# Altium footprint library 18650 battery.PCBLIB: 111 footprints (part 2 of 7)
Each footprint in its own frame and in the unit in brackets; x right, y up, seen from the top. Pads: shape width x height; smd on the part's side, far side on the other; paste and mask are expansions set on the pad; w line width, h text height; cw(c..) or ccw(c..) is an arc to the next point about the centre after c.
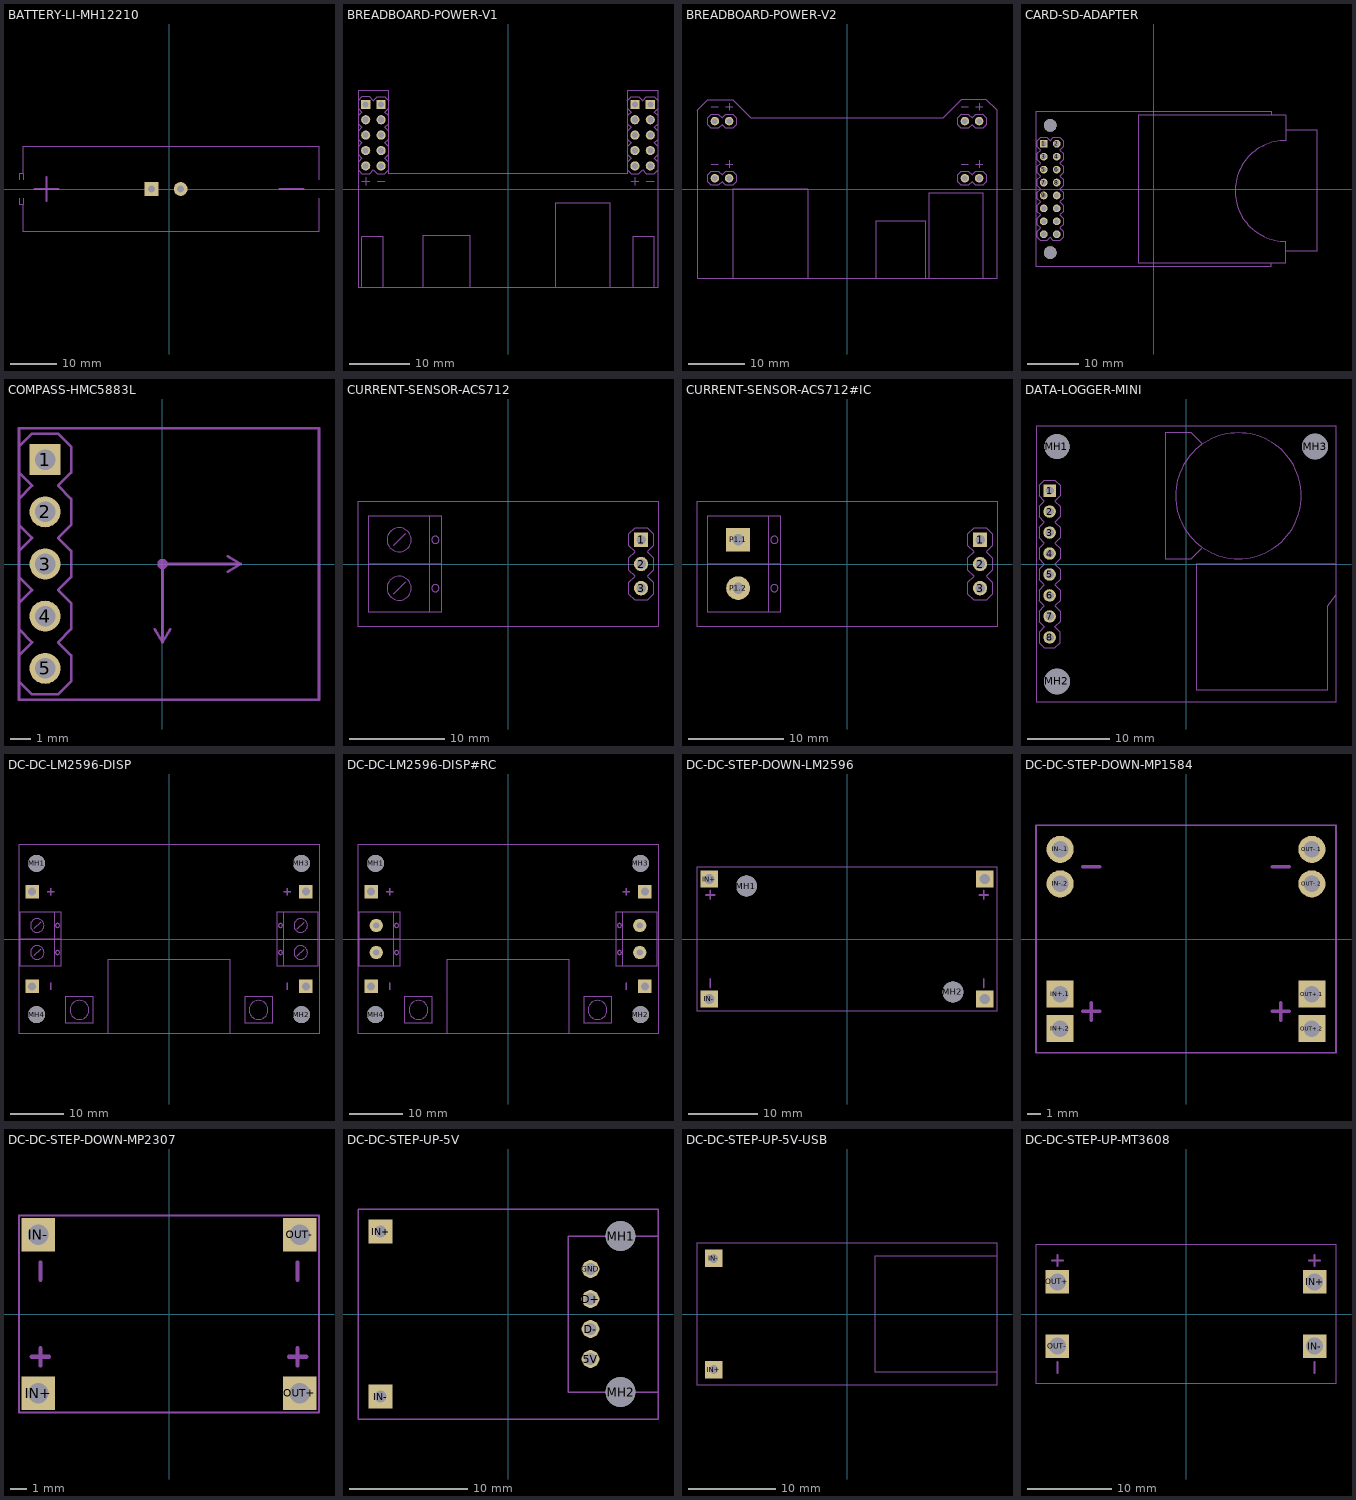
[diagram p1: the footprints below, top view; thin cyan lines are the x and y axes]

## BATTERY-LI-MH12210 [mm]
pads (2):
  rect 3x3 / inner round 2.772 / far side rect 3x3 hole 1.5: BAT+(-3.81,0)
  round 3 hole 1.5: BAT-(2.54,0)
tPlace:
  lines w0.127: -32.639,-2.032 -32.639,-3.302 -31.75,-3.302 ; -32.639,2.032 -32.639,3.302 -31.75,3.302 ; -31.75,-2.032 -31.75,-3.302 ; -31.75,2.032 -31.75,3.302 ; 32.639,-2.032 32.639,-9.271 -31.75,-9.271 -31.75,-3.302 ; 32.639,2.032 32.639,9.271 -31.75,9.271 -31.75,3.302
  lines w0.508: -29.21,0 -24.13,0 ; -26.67,-2.54 -26.67,2.54 ; 24.13,0 29.21,0
  text "MH1220" at 0,1.27 h4.72
  text "3.7V" at 0,-1.27 h4.72

## BREADBOARD-POWER-V1 [mm]
pads (20):
  rect 1.508x1.508 / inner round 1.393 / far side rect 1.508x1.508 hole 1: A.M.1(-20.955,13.97) A.P.1(-23.495,13.97) B.M.1(23.495,13.97) B.P.1(20.955,13.97)
  round 1.508 hole 1: A.M.2(-20.955,11.43) A.M.3(-20.955,8.89) A.M.4(-20.955,6.35) A.M.5(-20.955,3.81) A.P.2(-23.495,11.43) A.P.3(-23.495,8.89) A.P.4(-23.495,6.35) A.P.5(-23.495,3.81) B.M.2(23.495,11.43) B.M.3(23.495,8.89) B.M.4(23.495,6.35) B.M.5(23.495,3.81) B.P.2(20.955,11.43) B.P.3(20.955,8.89) B.P.4(20.955,6.35) B.P.5(20.955,3.81)
tPlace:
  lines w0.127: -24.765,14.605 -24.13,15.24 -22.86,15.24 -22.225,14.605 -21.59,15.24 -20.32,15.24 -19.685,14.605 ; -24.13,1.27 -22.86,1.27 ; -23.495,0.635 -23.495,1.905 ; -21.59,1.27 -20.32,1.27 ; 20.32,1.27 21.59,1.27 ; 20.955,0.635 20.955,1.905 ; 22.86,1.27 24.13,1.27 ; -24.765,3.175 -24.765,4.445 ; -24.765,3.175 -24.765,-16.256 -24.13,-16.256 ; -24.765,3.175 -24.13,2.54 -22.86,2.54 -22.225,3.175 -21.59,2.54 -20.32,2.54 -19.685,3.175 ; -24.765,4.445 -24.765,5.715 ; -24.765,4.445 -24.13,5.08 -24.765,5.715 ; -24.765,5.715 -24.765,6.985 ; -24.765,6.985 -24.765,8.255 ; -24.765,6.985 -24.13,7.62 -24.765,8.255 ; -24.765,8.255 -24.765,9.525 ; -24.765,9.525 -24.765,10.795 ; -24.765,9.525 -24.13,10.16 -24.765,10.795 ; -24.765,10.795 -24.765,12.065 ; -24.765,12.065 -24.765,13.335 ; -24.765,12.065 -24.13,12.7 -24.765,13.335 ; -24.765,13.335 -24.765,16.256 -19.685,16.256 -19.685,13.335 ; -24.13,-16.256 -20.574,-16.256 ; -24.13,-16.256 -24.13,-7.874 -20.574,-7.874 -20.574,-16.256 ; -20.574,-16.256 -13.97,-16.256 ; -19.685,3.175 -19.685,2.54 19.685,2.54 19.685,3.175 ; -19.685,3.175 -19.685,4.445 ; -19.685,4.445 -19.685,5.715 ; -19.685,4.445 -20.32,5.08 -19.685,5.715 ; -19.685,5.715 -19.685,6.985 ; -19.685,6.985 -19.685,8.255 ; -19.685,6.985 -20.32,7.62 -19.685,8.255 ; -19.685,8.255 -19.685,9.525 ; -19.685,9.525 -19.685,10.795 ; -19.685,9.525 -20.32,10.16 -19.685,10.795 ; -19.685,10.795 -19.685,12.065 ; -19.685,12.065 -19.685,13.335 ; -19.685,12.065 -20.32,12.7 -19.685,13.335 ; -13.97,-16.256 -6.35,-16.256 ; -13.97,-16.256 -13.97,-7.62 -6.35,-7.62 -6.35,-16.256 ; -6.35,-16.256 7.874,-16.256 ; 7.874,-16.256 16.764,-16.256 ; 7.874,-16.256 7.874,-2.286 16.764,-2.286 16.764,-16.256 ; 16.764,-16.256 20.574,-16.256 ; 19.685,3.175 19.685,4.445 ; 19.685,3.175 20.32,2.54 21.59,2.54 22.225,3.175 22.86,2.54 24.13,2.54 24.765,3.175 ; 19.685,4.445 19.685,5.715 ; 19.685,4.445 20.32,5.08 19.685,5.715 ; 19.685,5.715 19.685,6.985 ; 19.685,6.985 19.685,8.255 ; 19.685,6.985 20.32,7.62 19.685,8.255 ; 19.685,8.255 19.685,9.525 ; 19.685,9.525 19.685,10.795 ; 19.685,9.525 20.32,10.16 19.685,10.795 ; 19.685,10.795 19.685,12.065 ; 19.685,12.065 19.685,13.335 ; 19.685,12.065 20.32,12.7 19.685,13.335 ; 19.685,13.335 19.685,14.605 ; 19.685,14.605 19.685,16.256 24.765,16.256 24.765,14.605 ; 19.685,14.605 20.32,15.24 21.59,15.24 22.225,14.605 22.86,15.24 24.13,15.24 24.765,14.605 ; 20.574,-16.256 24.13,-16.256 ; 20.574,-16.256 20.574,-7.874 24.13,-7.874 24.13,-16.256 ; 24.13,-16.256 24.765,-16.256 24.765,3.175 ; 24.765,3.175 24.765,4.445 ; 24.765,4.445 24.765,5.715 ; 24.765,4.445 24.13,5.08 24.765,5.715 ; 24.765,5.715 24.765,6.985 ; 24.765,6.985 24.765,8.255 ; 24.765,6.985 24.13,7.62 24.765,8.255 ; 24.765,8.255 24.765,9.525 ; 24.765,9.525 24.765,10.795 ; 24.765,9.525 24.13,10.16 24.765,10.795 ; 24.765,10.795 24.765,12.065 ; 24.765,12.065 24.765,13.335 ; 24.765,12.065 24.13,12.7 24.765,13.335 ; 24.765,13.335 24.765,14.605
  text "SW1" at -22.352,-12.065 h1.97
  text "USB" at -10.16,-12.065 h1.97
  text "DC-IN" at 12.192,-12.065 h1.97
  text "SW2" at 22.352,-12.065 h1.97
  text "A" at -22.225,0 h1.97
  text "B" at 22.225,0 h1.97

## BREADBOARD-POWER-V2 [mm]
pads (8):
  round 1.508 hole 1: A.M.1(-23.495,12.065) A.M.2(-23.495,1.905) A.P.1(-20.955,12.065) A.P.2(-20.955,1.905) B.M.1(20.955,12.065) B.M.2(20.955,1.905) B.P.1(23.495,12.065) B.P.2(23.495,1.905)
tPlace:
  lines w0.127: -24.13,4.445 -22.86,4.445 ; -24.13,14.605 -22.86,14.605 ; -21.59,4.445 -20.32,4.445 ; -21.59,14.605 -20.32,14.605 ; -20.955,3.81 -20.955,5.08 ; -20.955,13.97 -20.955,15.24 ; 20.32,4.445 21.59,4.445 ; 20.32,14.605 21.59,14.605 ; 22.86,4.445 24.13,4.445 ; 22.86,14.605 24.13,14.605 ; 23.495,3.81 23.495,5.08 ; 23.495,13.97 23.495,15.24 ; -20.32,-15.875 -26.67,-15.875 -26.67,13.97 -24.765,15.875 -20.32,15.875 -17.145,12.7 17.145,12.7 20.32,15.875 24.765,15.875 26.67,13.97 26.67,-15.875 24.13,-15.875 ; -20.32,-15.875 -6.985,-15.875 ; -20.32,-15.875 -20.32,0 -6.985,0 -6.985,-15.875 ; -6.985,-15.875 5.08,-15.875 ; 5.08,-15.875 13.97,-15.875 ; 5.08,-15.875 5.08,-5.715 13.97,-5.715 13.97,-15.875 ; 13.97,-15.875 14.605,-15.875 ; 14.605,-15.875 24.13,-15.875 ; 14.605,-15.875 14.605,-0.635 24.13,-0.635 24.13,-15.875 ; -24.765,1.27 -24.13,0.635 -22.86,0.635 -22.225,1.27 -21.59,0.635 -20.32,0.635 -19.685,1.27 -19.685,2.54 -20.32,3.175 -21.59,3.175 -22.225,2.54 -22.86,3.175 -24.13,3.175 -24.765,2.54 -24.765,1.27 ; -24.765,11.43 -24.13,10.795 -22.86,10.795 -22.225,11.43 -21.59,10.795 -20.32,10.795 -19.685,11.43 -19.685,12.7 -20.32,13.335 -21.59,13.335 -22.225,12.7 -22.86,13.335 -24.13,13.335 -24.765,12.7 -24.765,11.43 ; 19.685,1.27 20.32,0.635 21.59,0.635 22.225,1.27 22.86,0.635 24.13,0.635 24.765,1.27 24.765,2.54 24.13,3.175 22.86,3.175 22.225,2.54 21.59,3.175 20.32,3.175 19.685,2.54 19.685,1.27 ; 19.685,11.43 20.32,10.795 21.59,10.795 22.225,11.43 22.86,10.795 24.13,10.795 24.765,11.43 24.765,12.7 24.13,13.335 22.86,13.335 22.225,12.7 21.59,13.335 20.32,13.335 19.685,12.7 19.685,11.43
  text "USB" at -13.652,-8.255 h1.97
  text "DC-IN" at 19.367,-8.255 h1.97
  text "A" at -22.225,7.62 h1.97
  text "B" at 22.225,7.62 h1.97
  text "SW" at 9.652,-10.795 h1.97

## CARD-SD-ADAPTER [mm]
pads (18):
  rect 1.508x1.508 / inner round 1.393 / far side rect 1.508x1.508 hole 1: 1(-21.59,8.89)
  round 1.508 hole 1: 2(-19.05,8.89) 3(-21.59,6.35) 4(-19.05,6.35) 5(-21.59,3.81) 6(-19.05,3.81) 7(-21.59,1.27) 8(-19.05,1.27) 9(-21.59,-1.27) 10(-19.05,-1.27) 11(-21.59,-3.81) 12(-19.05,-3.81) 13(-21.59,-6.35) 14(-19.05,-6.35) 15(-21.59,-8.89) 16(-19.05,-8.89)
  round 2.5 hole 2.5 unplated: MH1(-20.32,12.5) MH2(-20.32,-12.5)
tPlace:
  lines w0.127: 23.114,-14.478 -3.048,-14.478 -3.048,14.478 23.114,14.478 ; 23.114,-14.478 25.908,-14.478 25.908,-12.192 ; 23.114,-14.478 23.114,-15.24 -23.114,-15.24 -23.114,15.24 23.114,15.24 23.114,14.478 ; 23.114,14.478 25.908,14.478 25.908,11.684 ; 25.908,-12.192 25.908,-10.287 cw(c25.908,-0.381) 25.908,9.525 25.908,11.684 ; 25.908,-12.192 32.004,-12.192 32.004,11.684 25.908,11.684 ; -22.86,-9.525 -22.225,-10.16 -20.955,-10.16 -20.32,-9.525 -19.685,-10.16 -18.415,-10.16 -17.78,-9.525 -17.78,-8.255 -18.415,-7.62 -17.78,-6.985 -17.78,-5.715 -18.415,-5.08 -17.78,-4.445 -17.78,-3.175 -18.415,-2.54 -17.78,-1.905 -17.78,-0.635 -18.415,0 -17.78,0.635 -17.78,1.905 -18.415,2.54 -17.78,3.175 -17.78,4.445 -18.415,5.08 -17.78,5.715 -17.78,6.985 -18.415,7.62 -17.78,8.255 -17.78,9.525 -18.415,10.16 -19.685,10.16 -20.32,9.525 -20.955,10.16 -22.225,10.16 -22.86,9.525 -22.86,8.255 -22.225,7.62 -22.86,6.985 -22.86,5.715 -22.225,5.08 -22.86,4.445 -22.86,3.175 -22.225,2.54 -22.86,1.905 -22.86,0.635 -22.225,0 -22.86,-0.635 -22.86,-1.905 -22.225,-2.54 -22.86,-3.175 -22.86,-4.445 -22.225,-5.08 -22.86,-5.715 -22.86,-6.985 -22.225,-7.62 -22.86,-8.255 -22.86,-9.525
  text "SD CARD" at 24.13,-0.381 h2.76

## COMPASS-HMC5883L [mm]
pads (5):
  rect 1.508x1.508 / inner round 1.393 / far side rect 1.508x1.508 hole 1: 1(-5.715,5.08)
  round 1.508 hole 1: 2(-5.715,2.54) 3(-5.715,0) 4(-5.715,-2.54) 5(-5.715,-5.08)
tPlace:
  circle w0.254: c0,0 r0.127
  lines w0.127: -6.985,-5.715 -6.35,-6.35 -5.08,-6.35 -4.445,-5.715 -4.445,-4.445 -5.08,-3.81 -4.445,-3.175 -4.445,-1.905 -5.08,-1.27 -4.445,-0.635 -4.445,0.635 -5.08,1.27 -4.445,1.905 -4.445,3.175 -5.08,3.81 -4.445,4.445 -4.445,5.715 -5.08,6.35 -6.35,6.35 -6.985,5.715 ; -0.381,-3.175 0,-3.81 ; 0.381,-3.175 0,-3.81 ; 3.175,-0.381 3.81,0 ; 3.175,0.381 3.81,0 ; -6.985,-4.445 -6.985,-6.604 7.62,-6.604 7.62,6.604 -6.985,6.604 -6.985,4.445 ; -6.985,-4.445 -6.985,-3.175 ; -6.985,-4.445 -6.35,-3.81 -6.985,-3.175 ; -6.985,-3.175 -6.985,-1.905 ; -6.985,-1.905 -6.985,-0.635 ; -6.985,-1.905 -6.35,-1.27 -6.985,-0.635 ; -6.985,-0.635 -6.985,0.635 ; -6.985,0.635 -6.985,1.905 ; -6.985,0.635 -6.35,1.27 -6.985,1.905 ; -6.985,1.905 -6.985,3.175 ; -6.985,3.175 -6.985,4.445 ; -6.985,3.175 -6.35,3.81 -6.985,4.445 ; 0,-3.81 0,0 3.81,0
  text "X" at 0.635,-3.81 h1.97
  text "Y" at 3.175,0.635 h1.97
  text "Z" at -0.635,0.635 h1.97

## CURRENT-SENSOR-ACS712 [mm]
pads (3):
  rect 1.508x1.508 / inner round 1.393 / far side rect 1.508x1.508 hole 1: 1(13.97,2.54)
  round 1.508 hole 1: 2(13.97,0) 3(13.97,-2.54)
tPlace:
  circle w0.127: c-11.43,2.54 r1.27
  circle w0.127: c-11.43,-2.54 r1.27
  circle w0.127: c-7.62,2.54 r0.381
  circle w0.127: c-7.62,-2.54 r0.381
  lines w0.127: -12.065,-3.175 -10.795,-1.905 ; -12.065,1.905 -10.795,3.175 ; -14.605,0 -14.605,-5.08 -8.255,-5.08 ; -14.605,0 -14.605,5.08 -8.255,5.08 ; -14.605,0 -6.985,0 ; -8.255,-5.08 -6.985,-5.08 -6.985,0 ; -8.255,-5.08 -8.255,5.08 ; -8.255,5.08 -6.985,5.08 -6.985,0 ; -15.748,-6.604 15.748,-6.604 15.748,6.604 -15.748,6.604 -15.748,-6.604 ; 12.7,-3.175 13.335,-3.81 14.605,-3.81 15.24,-3.175 15.24,-1.905 14.605,-1.27 15.24,-0.635 15.24,0.635 14.605,1.27 15.24,1.905 15.24,3.175 14.605,3.81 13.335,3.81 12.7,3.175 12.7,1.905 13.335,1.27 12.7,0.635 12.7,-0.635 13.335,-1.27 12.7,-1.905 12.7,-3.175

## CURRENT-SENSOR-ACS712#IC [mm]
pads (5):
  rect 1.508x1.508 / inner round 1.393 / far side rect 1.508x1.508 hole 1: 1(13.97,2.54)
  round 1.508 hole 1: 2(13.97,0) 3(13.97,-2.54)
  rect 2.5x2.5 / inner round 2.31 / far side rect 2.5x2.5 hole 1.2: P1.1(-11.43,2.54)
  round 2.5 hole 1.2: P1.2(-11.43,-2.54)
tPlace:
  circle w0.127: c-7.62,2.54 r0.381
  circle w0.127: c-7.62,-2.54 r0.381
  lines w0.127: -14.605,0 -14.605,-5.08 -8.255,-5.08 ; -14.605,0 -14.605,5.08 -8.255,5.08 ; -14.605,0 -6.985,0 ; -8.255,-5.08 -6.985,-5.08 -6.985,0 ; -8.255,-5.08 -8.255,5.08 ; -8.255,5.08 -6.985,5.08 -6.985,0 ; -15.748,-6.604 15.748,-6.604 15.748,6.604 -15.748,6.604 -15.748,-6.604 ; 12.7,-3.175 13.335,-3.81 14.605,-3.81 15.24,-3.175 15.24,-1.905 14.605,-1.27 15.24,-0.635 15.24,0.635 14.605,1.27 15.24,1.905 15.24,3.175 14.605,3.81 13.335,3.81 12.7,3.175 12.7,1.905 13.335,1.27 12.7,0.635 12.7,-0.635 13.335,-1.27 12.7,-1.905 12.7,-3.175

## DATA-LOGGER-MINI [mm]
pads (11):
  rect 1.508x1.508 / inner round 1.393 / far side rect 1.508x1.508 hole 1: 1(-16.51,8.89)
  round 1.508 hole 1: 2(-16.51,6.35) 3(-16.51,3.81) 4(-16.51,1.27) 5(-16.51,-1.27) 6(-16.51,-3.81) 7(-16.51,-6.35) 8(-16.51,-8.89)
  round 3 hole 3 unplated: MH1(-15.621,14.224)
  round 3.1 hole 3.1 unplated: MH2(-15.621,-14.224) MH3(15.621,14.224)
tPlace:
  circle w0.127: c6.35,8.255 r7.62
  lines w0.127: 1.905,1.905 0.635,0.635 -2.54,0.635 -2.54,15.875 0.635,15.875 1.905,14.605 ; 18.161,-3.81 18.161,0 ; 18.161,-3.81 18.161,-16.764 -18.161,-16.764 -18.161,16.764 18.161,16.764 18.161,0 ; 18.161,-3.81 17.145,-5.08 17.145,-15.24 1.27,-15.24 1.27,0 18.161,0 ; -17.78,-9.525 -17.145,-10.16 -15.875,-10.16 -15.24,-9.525 -15.24,-8.255 -15.875,-7.62 -15.24,-6.985 -15.24,-5.715 -15.875,-5.08 -15.24,-4.445 -15.24,-3.175 -15.875,-2.54 -15.24,-1.905 -15.24,-0.635 -15.875,0 -15.24,0.635 -15.24,1.905 -15.875,2.54 -15.24,3.175 -15.24,4.445 -15.875,5.08 -15.24,5.715 -15.24,6.985 -15.875,7.62 -15.24,8.255 -15.24,9.525 -15.875,10.16 -17.145,10.16 -17.78,9.525 -17.78,8.255 -17.145,7.62 -17.78,6.985 -17.78,5.715 -17.145,5.08 -17.78,4.445 -17.78,3.175 -17.145,2.54 -17.78,1.905 -17.78,0.635 -17.145,0 -17.78,-0.635 -17.78,-1.905 -17.145,-2.54 -17.78,-3.175 -17.78,-4.445 -17.145,-5.08 -17.78,-5.715 -17.78,-6.985 -17.145,-7.62 -17.78,-8.255 -17.78,-9.525
  text "5V" at -14.605,8.89 h1.97
  text "GND" at -14.605,6.35 h1.97
  text "SDA" at -14.605,3.81 h1.97
  text "SCL" at -14.605,1.27 h1.97
  text "SCK" at -14.605,-1.27 h1.97
  text "MISO" at -14.605,-3.81 h1.97
  text "MOSI" at -14.605,-6.35 h1.97
  text "CS" at -14.605,-8.89 h1.97
  text "BATTERY" at 6.35,8.255 h2.76
  text "MICRO-SD" at 8.89,-6.35 h2.76
  text "CARD" at 8.89,-8.89 h2.76

## DC-DC-LM2596-DISP [mil]
pads (8):
  rect 98.43x98.43 / inner round 90.94 / far side rect 98.43x98.43 hole 59.06: IN+(-1012.5,350) IN-(-1012.5,-350) OUT+(1012.5,350) OUT-(1012.5,-350)
  round 125.98 hole 125.98 unplated: MH1(-980,560) MH2(980,-560) MH3(980,560) MH4(-980,-560)
tPlace:
  circle w5: c-975,100 r50
  circle w5: c-975,-100 r50
  circle w5: c-825,100 r15
  circle w5: c-825,-100 r15
  circle w5: c975,-100 r50
  circle w5: c975,100 r50
  circle w5: c825,-100 r15
  circle w5: c825,100 r15
  circle w5: c662.5,-525 r70
  circle w5: c-662.5,-525 r70
  lines w5: -1000,-125 -950,-75 ; -1000,75 -950,125 ; 950,-125 1000,-75 ; 950,75 1000,125 ; -1100,0 -1100,-200 -850,-200 ; -1100,0 -1100,200 -850,200 ; -1100,0 -800,0 ; -850,-200 -800,-200 -800,0 ; -850,-200 -850,200 ; -850,200 -800,200 -800,0 ; -450,-700 450,-700 ; -450,-700 -1110,-700 -1110,700 1110,700 1110,-700 450,-700 ; -450,-700 -450,-150 450,-150 450,-700 ; 800,0 800,-200 850,-200 ; 800,0 800,200 850,200 ; 800,0 1100,0 ; 850,-200 1100,-200 1100,0 ; 850,-200 850,200 ; 850,200 1100,200 1100,0 ; -762.5,-625 -562.5,-625 -562.5,-425 -762.5,-425 -762.5,-625 ; 562.5,-625 762.5,-625 762.5,-425 562.5,-425 562.5,-625
  lines w10: -900,350 -850,350 ; -875,-375 -875,-325 ; -875,325 -875,375 ; 850,350 900,350 ; 875,-375 875,-325 ; 875,325 875,375
  text "IN" at -725,0 h108.5
  text "OUT" at 725,0 h108.5

## DC-DC-LM2596-DISP#RC [mil]
pads (12):
  rect 98.43x98.43 / inner round 90.94 / far side rect 98.43x98.43 hole 59.06: IN+(-1012.5,350) IN-(-1012.5,-350) OUT+(1012.5,350) OUT-(1012.5,-350)
  round 125.98 hole 125.98 unplated: MH1(-980,560) MH2(980,-560) MH3(980,560) MH4(-980,-560)
  round 98.43 hole 47.24: P1.1(-975,100) P1.2(-975,-100) P2.1(975,-100) P2.2(975,100)
tPlace:
  circle w5: c-825,100 r15
  circle w5: c-825,-100 r15
  circle w5: c825,-100 r15
  circle w5: c825,100 r15
  circle w5: c662.5,-525 r70
  circle w5: c-662.5,-525 r70
  lines w5: -1100,0 -1100,-200 -850,-200 ; -1100,0 -1100,200 -850,200 ; -1100,0 -800,0 ; -850,-200 -800,-200 -800,0 ; -850,-200 -850,200 ; -850,200 -800,200 -800,0 ; -450,-700 450,-700 ; -450,-700 -1110,-700 -1110,700 1110,700 1110,-700 450,-700 ; -450,-700 -450,-150 450,-150 450,-700 ; 800,0 800,-200 850,-200 ; 800,0 800,200 850,200 ; 800,0 1100,0 ; 850,-200 1100,-200 1100,0 ; 850,-200 850,200 ; 850,200 1100,200 1100,0 ; -762.5,-625 -562.5,-625 -562.5,-425 -762.5,-425 -762.5,-625 ; 562.5,-625 762.5,-625 762.5,-425 562.5,-425 562.5,-625
  lines w10: -900,350 -850,350 ; -875,-375 -875,-325 ; -875,325 -875,375 ; 850,350 900,350 ; 875,-375 875,-325 ; 875,325 875,375
  text "IN" at -725,0 h108.5
  text "OUT" at 725,0 h108.5

## DC-DC-STEP-DOWN-LM2596 [mil]
pads (6):
  rect 98.43x98.43 / inner round 90.94 / far side rect 98.43x98.43 hole 59.06: IN+(-780,340) IN-(-780,-340) OUT+(780,340) OUT-(780,-340)
  round 118.11 hole 118.11 unplated: MH1(-570,300) MH2(600,-300)
tPlace:
  lines w5: -850,-410 850,-410 850,410 -850,410 -850,-410
  lines w10: -800,250 -750,250 ; -775,-275 -775,-225 ; -775,225 -775,275 ; 750,250 800,250 ; 775,-275 775,-225 ; 775,225 775,275
  text "IN" at -775,0 h108.5
  text "OUT" at 775,0 h108.5

## DC-DC-STEP-DOWN-MP1584 [mil]
pads (8):
  rect 78.74x78.74 / inner round 72.75 / far side rect 78.74x78.74 hole 47.24: IN+.1(-365,-160) IN+.2(-365,-260) OUT+.1(365,-160) OUT+.2(365,-260)
  round 78.74 hole 47.24: IN-.1(-365,260) IN-.2(-365,160) OUT-.1(365,260) OUT-.2(365,160)
tPlace:
  lines w5: -435,-330 435,-330 435,330 -435,330 -435,-330
  lines w10: -300,-210 -250,-210 ; -300,210 -250,210 ; -275,-235 -275,-185 ; 250,-210 300,-210 ; 250,210 300,210 ; 275,-235 275,-185
  text "IN" at -365,0 h93
  text "OUT" at 365,0 h93

## DC-DC-STEP-DOWN-MP2307 [mil]
pads (4):
  rect 78.74x78.74 / inner round 72.75 / far side rect 78.74x78.74 hole 47.24: IN+(-305,-185) IN-(-305,185) OUT+(305,-185) OUT-(305,185)
tPlace:
  lines w5: -350,-230 350,-230 350,230 -350,230 -350,-230
  lines w10: -320,-100 -280,-100 ; -300,-120 -300,-80 ; -300,80 -300,120 ; 280,-100 320,-100 ; 300,-120 300,-80 ; 300,80 300,120
  text "IN" at -250,0 h77.5
  text "OUT" at 250,0 h77.5

## DC-DC-STEP-UP-5V [mm]
pads (8):
  round 1.508 hole 1: 5V(6.985,-3.81) D+(6.985,1.27) D-(6.985,-1.27) GND(6.985,3.81)
  rect 2x2 / inner round 1.848 / far side rect 2x2 hole 1: IN+(-10.795,6.985) IN-(-10.795,-6.985)
  round 2.5 hole 2.5 unplated: MH1(9.525,6.604) MH2(9.525,-6.604)
tPlace:
  lines w0.127: 12.7,-6.604 12.7,6.604 ; 12.7,-6.604 12.7,-8.89 -12.7,-8.89 -12.7,8.89 12.7,8.89 12.7,6.604 ; 12.7,-6.604 5.08,-6.604 5.08,6.604 12.7,6.604
  text "IN+" at -8.89,6.985 h1.97
  text "IN-" at -8.89,-6.985 h1.97

## DC-DC-STEP-UP-5V-USB [mm]
pads (2):
  rect 2x2 / inner round 1.848 / far side rect 2x2 hole 1: IN+(-15.24,-6.35) IN-(-15.24,6.35)
tPlace:
  lines w0.127: 17.145,-6.604 17.145,6.604 ; 17.145,-6.604 17.145,-8.128 -17.145,-8.128 -17.145,8.128 17.145,8.128 17.145,6.604 ; 17.145,-6.604 3.175,-6.604 3.175,6.604 17.145,6.604
  text "IN-" at -13.335,6.35 h1.97
  text "IN+" at -13.335,-6.35 h1.97
  text "USB" at 10.16,0 h3.94

## DC-DC-STEP-UP-MT3608 [mm]
pads (4):
  rect 2.8x2.8 / inner round 2.587 / far side rect 2.8x2.8 hole 2: IN+(15.24,3.81) IN-(15.24,-3.81) OUT+(-15.24,3.81) OUT-(-15.24,-3.81)
tPlace:
  lines w0.127: -17.78,-8.255 17.78,-8.255 17.78,8.255 -17.78,8.255 -17.78,-8.255
  lines w0.254: -15.875,6.35 -14.605,6.35 ; -15.24,-6.985 -15.24,-5.715 ; -15.24,5.715 -15.24,6.985 ; 14.605,6.35 15.875,6.35 ; 15.24,-6.985 15.24,-5.715 ; 15.24,5.715 15.24,6.985
  text "IN" at 15.24,0 h1.97
  text "OUT" at -15.24,0 h1.97